# Altium footprint library PinHeader_2.54mm.PcbLib: 1 footprints
Each footprint in its own frame and in the unit in brackets; x right, y up, seen from the top. Pads: shape width x height; smd on the part's side, far side on the other; paste and mask are expansions set on the pad; w line width, h text height; cw(c..) or ccw(c..) is an arc to the next point about the centre after c.
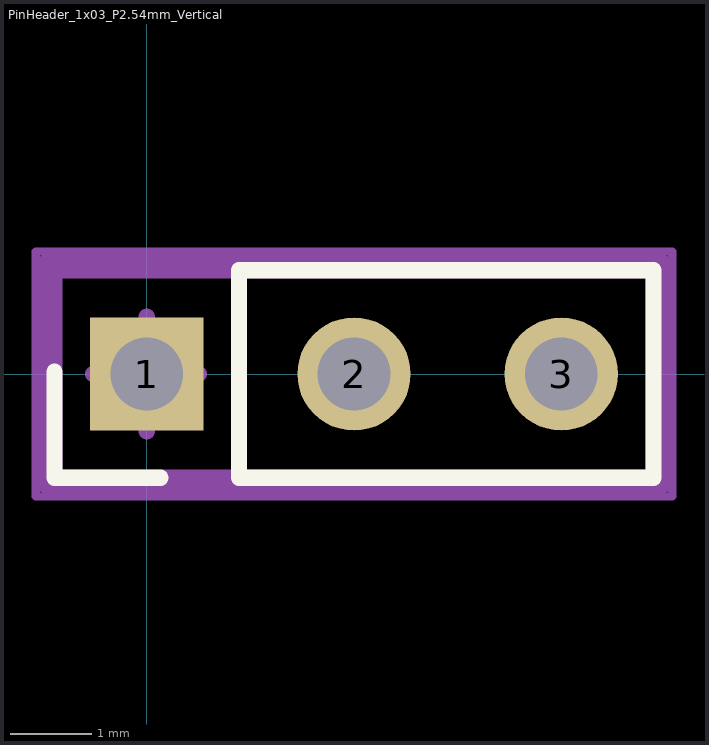
[diagram p0: the footprint, top view; thin cyan lines are the x and y axes]

## PinHeader_1x03_P2.54mm_Vertical [mil] "Through hole straight pin header, 1x03, 2.54mm pitch, single row"
pads (3):
  rect 54.69x54.69 hole 35 paste-39370.1 mask+0: 1(0,0)
  round 54.69 hole 35 paste-39370.1 mask+0: 2(100,0) 3(200,0)
Top Overlay:
  lines w7.87: -44.55,1.12 -44.55,-50.05 6.62,-50.05 ; 44.55,-50.05 244.55,-50.05 244.55,50.05 44.55,50.05 44.55,-50.05
Top Assembly:
  lines w7.87: -48.44,-53.94 -48.44,53.94 248.44,53.94 248.44,-53.94 -48.44,-53.94
Top Component Center:
  lines w7.87: -25.98,0 25.2,0 ; 0,-27.56 0,27.56
Top Component Outline:
  lines w7.87: -44.5,-50 -44.5,50 244.5,50 244.5,-50 -44.5,-50
Top Courtyard:
  lines w3.94: -53.54,-59.06 253.54,-59.06 253.54,59.06 -53.54,59.06 -53.54,-59.06
Top Designator:
  text ".Designator" at -199.9,-19.99 h60
3D body "Conn_TE_Connectivity_87224-3_eec.STEP": height 10, standoff 0, extent -48.43,-53.93 248.44,53.94